# Altium footprint library BMS_Slave - 複製.PcbLib: 15 footprints
Each footprint in its own frame and in the unit in brackets; x right, y up, seen from the top. Pads: shape width x height; smd on the part's side, far side on the other; paste and mask are expansions set on the pad; w line width, h text height; cw(c..) or ccw(c..) is an arc to the next point about the centre after c.
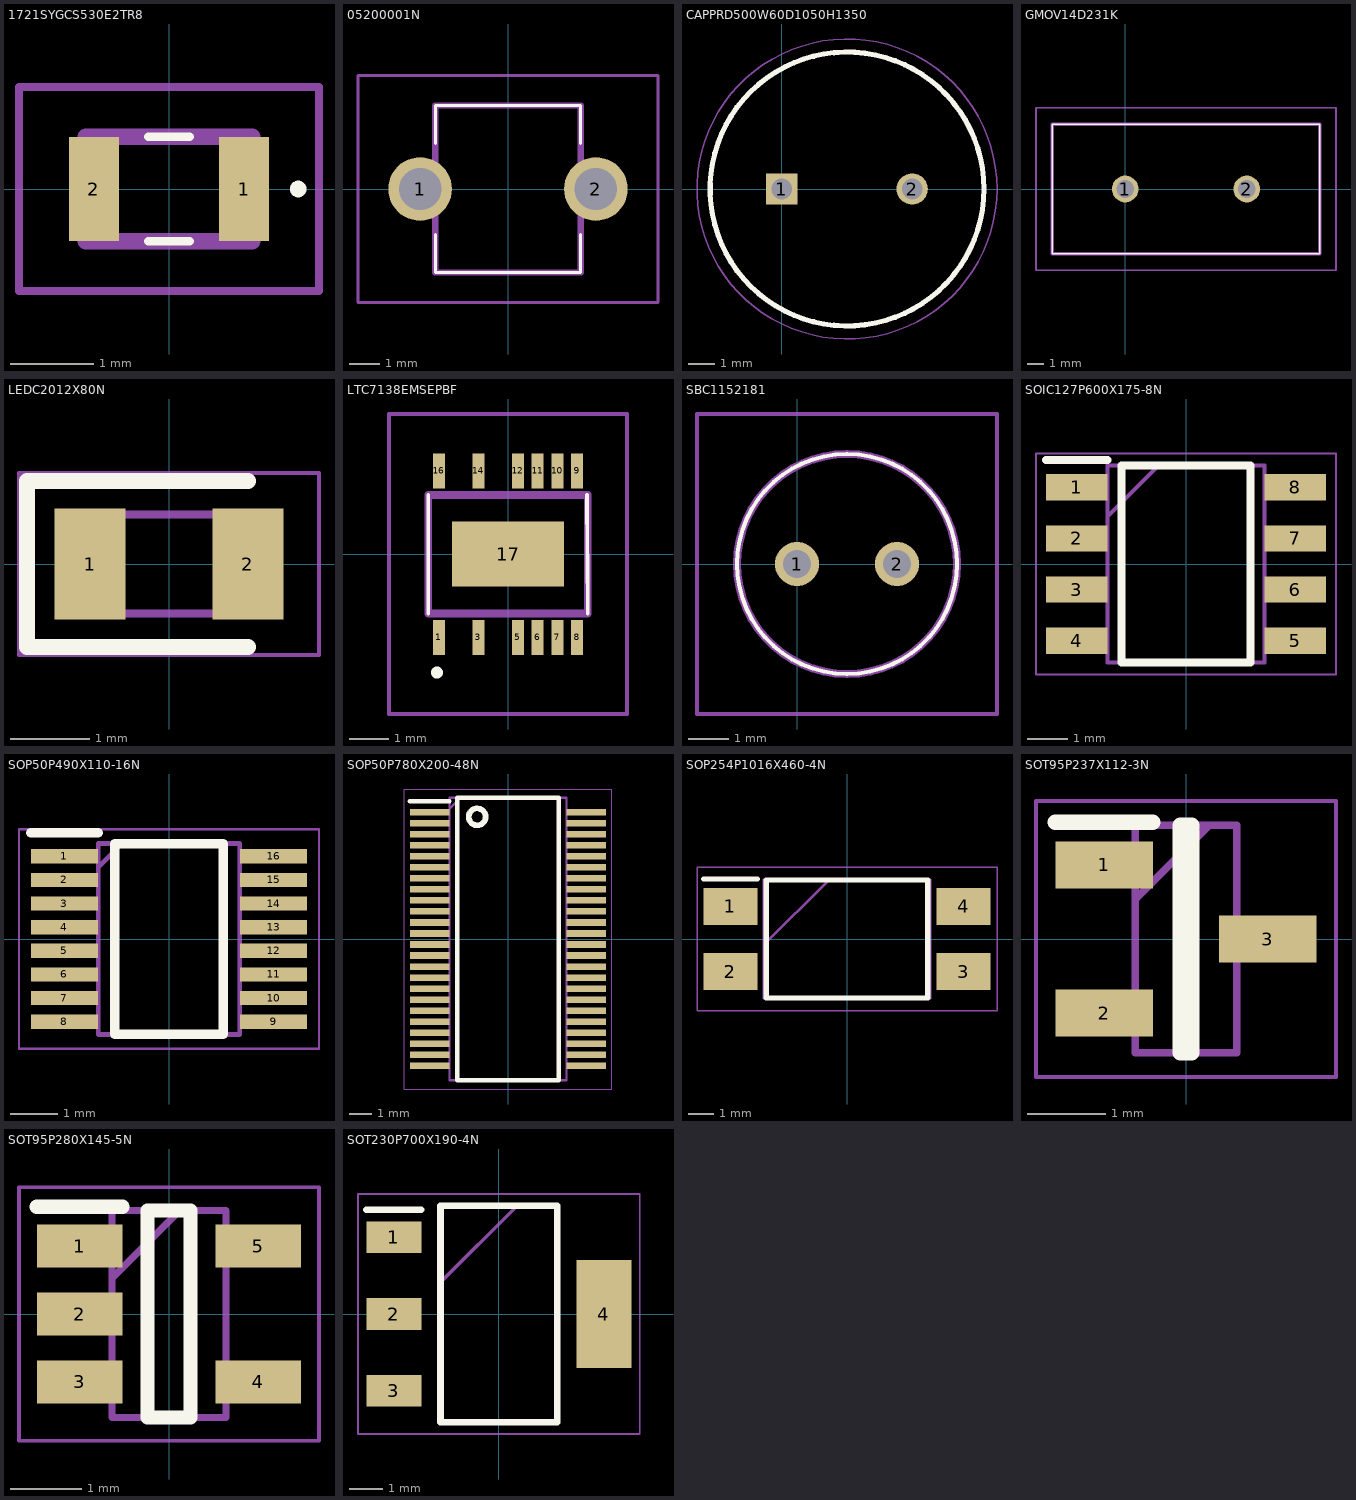
[diagram p0: the footprints below, top view; thin cyan lines are the x and y axes]

## 1721SYGCS530E2TR8 [mm]
pads (2):
  rect 0.6x1.25 smd: 1(0.9,0) 2(-0.9,0)
Top Overlay:
  lines w0.1: -0.25,-0.625 0.25,-0.625 ; -0.25,0.625 0.25,0.625 ; 1.5,0 ccw(c1.55,0) 1.6,0 ccw(c1.55,0) 1.5,0
Mechanical 13:
  lines w0.2: -1,-0.625 1,-0.625 1,0.625 -1,0.625 -1,-0.625
Mechanical 15:
  lines w0.1: -1.8,-1.225 1.8,-1.225 1.8,1.225 -1.8,1.225 -1.8,-1.225
3D body "17-21SYGC_S530-E2_TR8.stp": height 1.2, standoff 0, extent -1.14,-0.625 1.14,0.625

## 05200001N [mm]
pads (2):
  round 2.1 hole 1.4: 1(-2.9,0) 2(2.9,0)
Top Overlay:
  lines w0.1: -2.4,-1.5 -2.4,-2.75 2.4,-2.75 2.4,-1.5 ; -2.4,1.5 -2.4,2.75 2.4,2.75 2.4,1.5
Mechanical 13:
  lines w0.2: -2.4,-2.75 2.4,-2.75 2.4,2.75 -2.4,2.75 -2.4,-2.75
Mechanical 15:
  lines w0.1: -4.95,-3.75 4.95,-3.75 4.95,3.75 -4.95,3.75 -4.95,-3.75
3D body "05200001N.stp": height 8.1, standoff -5, extent -3.495,-2.75 3.5,2.75

## CAPPRD500W60D1050H1350 [mm]
pads (2):
  rect 1.2x1.2 hole 0.8: 1(0,0)
  round 1.2 hole 0.8: 2(5,0)
Top Overlay:
  circle w0.2: c2.5,0 r5.25
Mechanical 13:
  circle w0.1: c2.5,0 r5.25
Mechanical 15:
  circle w0.05: c2.5,0 r5.75
3D body "25ZLJ470M10X12.5.stp": height 13.5, standoff -10, extent -2.75,-5.247 7.75,5.247

## GMOV14D231K [mm]
pads (2):
  round 1.65 hole 1.1: 1(0,0) 2(7.5,0)
Top Overlay:
  lines w0.1: -4.5,-4 12,-4 12,4 -4.5,4 -4.5,-4
Mechanical 13:
  lines w0.2: -4.5,-4 12,-4 12,4 -4.5,4 -4.5,-4
Mechanical 15:
  lines w0.1: -5.5,-5 13,-5 13,5 -5.5,5 -5.5,-5
3D body "GMOV-14D231K.stp": height 20.1, standoff -5, extent -4.5,-4 12,4

## LEDC2012X80N [mm]
pads (2):
  rect 0.9x1.4 smd: 1(-1,0) 2(1,0)
Top Overlay:
  lines w0.2: 1,-1.05 -1.8,-1.05 -1.8,1.05 1,1.05
Mechanical 13:
  lines w0.1: -1,0.208 -0.583,0.625 ; -1,-0.625 -1,0.625 1,0.625 1,-0.625 -1,-0.625
Mechanical 15:
  lines w0.05: -1.9,-1.15 -1.9,1.15 1.9,1.15 1.9,-1.15 -1.9,-1.15
3D body "SML-210VTT86.stp": height 0.8, standoff 0, extent -1,-0.625 1,0.625

## LTC7138EMSEPBF [mm]
pads (13):
  rect 0.305x0.889 smd: 1(-1.75,-2.107) 3(-0.75,-2.107) 5(0.25,-2.107) 6(0.75,-2.107) 7(1.25,-2.107) 8(1.75,-2.107) 9(1.75,2.107) 10(1.25,2.107) 11(0.75,2.107) 12(0.25,2.107) 14(-0.75,2.107) 16(-1.75,2.107)
  rect 2.845x1.651 smd: 17(0,0)
Top Overlay:
  lines w0.1: -2.02,-1.5 -2.02,1.5 ; 2,1.5 2.02,-1.5
  lines w0.2: -1.85,-3 cw(c-1.8,-3) -1.75,-3 cw(c-1.8,-3) -1.85,-3
Mechanical 13:
  lines w0.2: -2.02,-1.5 2.02,-1.5 2.02,1.5 -2.02,1.5 -2.02,-1.5
Mechanical 15:
  lines w0.1: -3.02,-4.05 3.02,-4.05 3.02,3.551 -3.02,3.551 -3.02,-4.05

## LTP5901-IPM [mm] "Chip Antenna"

## SBC1152181 [mm]
pads (2):
  round 1.1 hole 0.7: 1(0,0) 2(2.5,0)
Top Overlay:
  lines w0.1: -1.5,0 ccw(c1.25,0) 4,0 ccw(c1.25,0) -1.5,0
Mechanical 13:
  lines w0.2: -1.5,0 ccw(c1.25,0) 4,0 ccw(c1.25,0) -1.5,0
Mechanical 15:
  lines w0.1: -2.5,-3.75 -2.5,3.75 5,3.75 5,-3.75 -2.5,-3.75

## SOIC127P600X175-8N [mm]
pads (8):
  rect 1.525x0.65 smd: 1(-2.712,1.905) 2(-2.712,0.635) 3(-2.712,-0.635) 4(-2.712,-1.905) 5(2.712,-1.905) 6(2.712,-0.635) 7(2.712,0.635) 8(2.712,1.905)
Top Overlay:
  lines w0.2: -3.475,2.58 -1.95,2.58 ; -1.6,-2.45 1.6,-2.45 1.6,2.45 -1.6,2.45 -1.6,-2.45
Mechanical 13:
  lines w0.1: -1.95,1.18 -0.68,2.45 ; -1.95,-2.45 1.95,-2.45 1.95,2.45 -1.95,2.45 -1.95,-2.45
Mechanical 15:
  lines w0.05: -3.725,-2.75 3.725,-2.75 3.725,2.75 -3.725,2.75 -3.725,-2.75
3D body "NE555DR.stp": height 1.75, standoff 0, extent -3,-2.45 3,2.45

## SOP50P490X110-16N [mm]
pads (16):
  rect 1.425x0.3 smd: 1(-2.212,1.75) 2(-2.212,1.25) 3(-2.212,0.75) 4(-2.212,0.25) 5(-2.212,-0.25) 6(-2.212,-0.75) 7(-2.212,-1.25) 8(-2.212,-1.75) 9(2.212,-1.75) 10(2.212,-1.25) 11(2.212,-0.75) 12(2.212,-0.25) 13(2.212,0.25) 14(2.212,0.75) 15(2.212,1.25) 16(2.212,1.75)
Top Overlay:
  lines w0.2: -2.925,2.25 -1.5,2.25 ; -1.15,-2.02 1.15,-2.02 1.15,2.02 -1.15,2.02 -1.15,-2.02
Mechanical 13:
  lines w0.1: -1.5,1.52 -1,2.02 ; -1.5,-2.02 1.5,-2.02 1.5,2.02 -1.5,2.02 -1.5,-2.02
Mechanical 15:
  lines w0.05: -3.175,-2.32 3.175,-2.32 3.175,2.32 -3.175,2.32 -3.175,-2.32
3D body "LTC6820HMS#PBF.stp": height 1.1, standoff 0, extent -2.45,-2.02 2.45,2.02

## SOP50P780X200-48N [mm]
pads (48):
  rect 1.8x0.3 smd: 1(-3.55,5.75) 2(-3.55,5.25) 3(-3.55,4.75) 4(-3.55,4.25) 5(-3.55,3.75) 6(-3.55,3.25) 7(-3.55,2.75) 8(-3.55,2.25) 9(-3.55,1.75) 10(-3.55,1.25) 11(-3.55,0.75) 12(-3.55,0.25) 13(-3.55,-0.25) 14(-3.55,-0.75) 15(-3.55,-1.25) 16(-3.55,-1.75) 17(-3.55,-2.25) 18(-3.55,-2.75) 19(-3.55,-3.25) 20(-3.55,-3.75) 21(-3.55,-4.25) 22(-3.55,-4.75) 23(-3.55,-5.25) 24(-3.55,-5.75) 25(3.55,-5.75) 26(3.55,-5.25) 27(3.55,-4.75) 28(3.55,-4.25) 29(3.55,-3.75) 30(3.55,-3.25) 31(3.55,-2.75) 32(3.55,-2.25) 33(3.55,-1.75) 34(3.55,-1.25) 35(3.55,-0.75) 36(3.55,-0.25) 37(3.55,0.25) 38(3.55,0.75) 39(3.55,1.25) 40(3.55,1.75) 41(3.55,2.25) 42(3.55,2.75) 43(3.55,3.25) 44(3.55,3.75) 45(3.55,4.25) 46(3.55,4.75) 47(3.55,5.25) 48(3.55,5.75)
Top Overlay:
  circle w0.254: c-1.397,5.537 r0.384
  lines w0.2: -4.45,6.25 -2.65,6.25 ; -2.3,-6.4 -2.3,6.4 2.3,6.4 2.3,-6.4 -2.3,-6.4
Mechanical 13:
  lines w0.1: -2.65,5.9 -2.15,6.4 ; -2.65,-6.4 -2.65,6.4 2.65,6.4 2.65,-6.4 -2.65,-6.4
Mechanical 15:
  lines w0.05: -4.7,-6.8 -4.7,6.8 4.7,6.8 4.7,-6.8 -4.7,-6.8
3D body "LTC6811-1.stp": height 2, standoff 0, extent -3.9,-6.4 3.9,6.4

## SOP254P1016X460-4N [mm]
pads (4):
  rect 2.1x1.45 smd: 1(-4.55,1.27) 2(-4.55,-1.27) 3(4.55,-1.27) 4(4.55,1.27)
Top Overlay:
  lines w0.2: -5.6,2.345 -3.5,2.345 ; -3.15,-2.3 3.15,-2.3 3.15,2.3 -3.15,2.3 -3.15,-2.3
Mechanical 13:
  lines w0.1: -3.25,-0.24 -0.71,2.3 ; -3.25,-2.3 3.25,-2.3 3.25,2.3 -3.25,2.3 -3.25,-2.3
Mechanical 15:
  lines w0.05: -5.85,-2.8 5.85,-2.8 5.85,2.8 -5.85,2.8 -5.85,-2.8
3D body "LTV-817S.stp": height 4.6, standoff 0, extent -5.08,-2.3 5.08,2.3

## SOT95P237X112-3N [mm]
pads (3):
  rect 1.25x0.6 smd: 1(-1.05,0.95) 2(-1.05,-0.95) 3(1.05,0)
Top Overlay:
  lines w0.2: -1.675,1.5 -0.425,1.5 ; -0.075,-1.46 0.075,-1.46 0.075,1.46 -0.075,1.46 -0.075,-1.46
Mechanical 13:
  lines w0.1: -0.65,0.51 0.3,1.46 ; -0.65,-1.46 0.65,-1.46 0.65,1.46 -0.65,1.46 -0.65,-1.46
Mechanical 15:
  lines w0.05: -1.925,-1.77 1.925,-1.77 1.925,1.77 -1.925,1.77 -1.925,-1.77
3D body "ATL431BQDBZR.stp": height 1.12, standoff 0, extent -1.185,-1.46 1.185,1.46

## SOT95P280X145-5N [mm]
pads (5):
  rect 1.2x0.6 smd: 1(-1.25,0.95) 2(-1.25,0) 3(-1.25,-0.95) 4(1.25,-0.95) 5(1.25,0.95)
Top Overlay:
  lines w0.2: -1.85,1.5 -0.65,1.5 ; -0.3,-1.45 0.3,-1.45 0.3,1.45 -0.3,1.45 -0.3,-1.45
Mechanical 13:
  lines w0.1: -0.8,0.5 0.15,1.45 ; -0.8,-1.45 0.8,-1.45 0.8,1.45 -0.8,1.45 -0.8,-1.45
Mechanical 15:
  lines w0.05: -2.1,-1.775 2.1,-1.775 2.1,1.775 -2.1,1.775 -2.1,-1.775
3D body "TLV1701QDBVRQ1.stp": height 1.45, standoff 0, extent -1.4,-1.45 1.4,1.45

## SOT230P700X190-4N [mm]
pads (4):
  rect 1.65x0.95 smd: 1(-3.15,2.3) 2(-3.15,0) 3(-3.15,-2.3)
  rect 1.65x3.25 smd: 4(3.15,0)
Top Overlay:
  lines w0.2: -3.975,3.125 -2.325,3.125 ; -1.75,-3.25 -1.75,3.25 1.75,3.25 1.75,-3.25 -1.75,-3.25
Mechanical 13:
  lines w0.1: -1.75,0.95 0.55,3.25 ; -1.75,-3.25 -1.75,3.25 1.75,3.25 1.75,-3.25 -1.75,-3.25
Mechanical 15:
  lines w0.05: -4.225,-3.6 -4.225,3.6 4.225,3.6 4.225,-3.6 -4.225,-3.6
3D body "LD1117S50TR.stp": height 1.9, standoff 0, extent -3.5,-3.25 3.5,3.25